# Altium footprint library 416 131 160 801.PcbLib: 1 footprints
Each footprint in its own frame and in the unit in brackets; x right, y up, seen from the top. Pads: shape width x height; smd on the part's side, far side on the other; paste and mask are expansions set on the pad; w line width, h text height; cw(c..) or ccw(c..) is an arc to the next point about the centre after c.
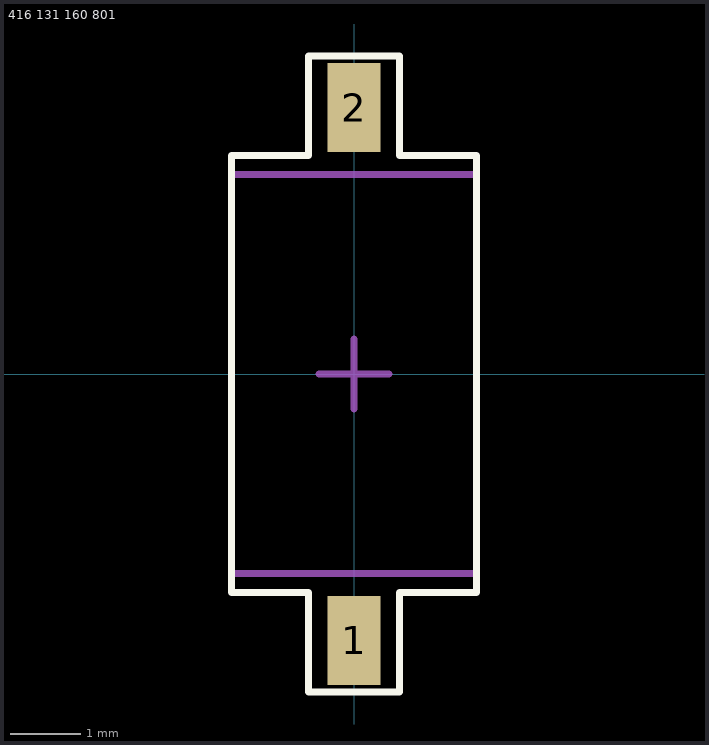
[diagram p0: the footprint, top view; thin cyan lines are the x and y axes]

## 416 131 160 801 [mm]
pads (2):
  rect 0.76x1.27 smd: 1(0,-3.81) 2(0,3.81)
Top Overlay:
  lines w0.1: -0.675,3.125 -1.75,3.125 -1.75,-3.125 -0.65,-3.125 -0.65,-4.55 0.65,-4.55 0.65,-3.125 1.75,-3.125 1.75,3.125 0.65,3.125 0.65,4.55 -0.65,4.55 -0.65,3.125
Mechanical 15:
  lines w0.1: -0.5,0 0.5,0 ; 0,-0.5 0,0.5 ; -1.75,-2.85 1.75,-2.85 1.75,2.85 -1.75,2.85 -1.75,-2.85
3D body: height 2.1, standoff 0.01, extent -1.75,-2.85 1.75,2.85